# EAGLE library part ESP32 (library SeniorDesignParts)
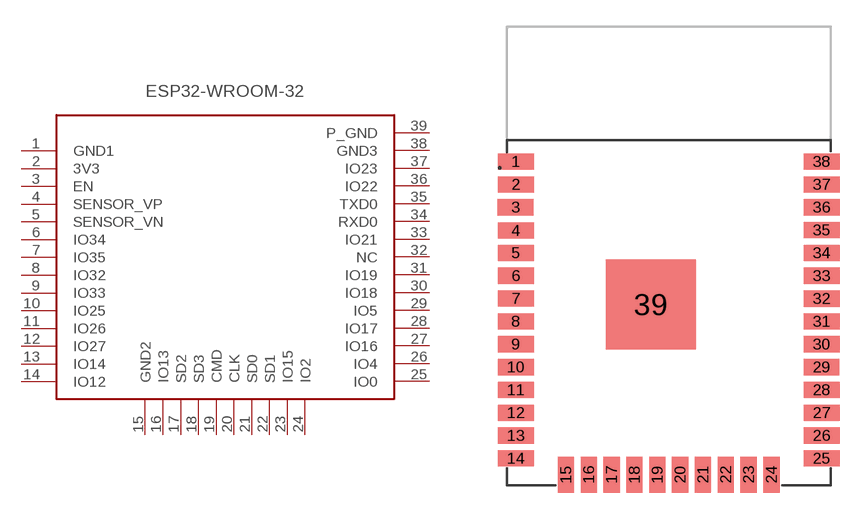
[diagram p2: symbol with the pads of 38-SMD; footprint 38-SMD]

Designator prefix -

## ESP32  [38-SMD]
1  GND1  pwr
2  3V3  pwr
3  EN
4  SENSOR_VP
5  SENSOR_VN
6  IO34
7  IO35
8  IO32
9  IO33
10  IO25
11  IO26
12  IO27
13  IO14
14  IO12
15  GND2  pwr
16  IO13
17  SD2
18  SD3
19  CMD
20  CLK
21  SD0
22  SD1
23  IO15
24  IO2
25  IO0
26  IO4
27  IO16
28  IO17
29  IO5
30  IO18
31  IO19
32  NC  nc
33  IO21
34  RXD0
35  TXD0
36  IO22
37  IO23
38  GND3  pwr
39  P_GND  pwr

## Footprint 38-SMD (pad centres in mm)
smd 2 x 0.9: 1 -7.62,5.08; 2 -7.62,3.81; 3 -7.63,2.54; 4 -7.62,1.24; 5 -7.62,0; 6 -7.62,-1.27; 7 -7.62,-2.54; 8 -7.62,-3.81; 9 -7.62,-5.08; 10 -7.62,-6.35; 11 -7.62,-7.62; 12 -7.62,-8.89; 13 -7.62,-10.16; 14 -7.62,-11.43; 25 9.379,-11.431; 26 9.379,-10.159; 27 9.381,-8.891; 28 9.379,-7.622; 29 9.377,-6.352; 30 9.379,-5.081; 31 9.382,-3.811; 32 9.38,-2.542; 33 9.38,-1.27; 34 9.38,0; 35 9.38,1.27; 36 9.38,2.54; 37 9.38,3.81; 38 9.38,5.08
smd 0.9 x 2: 15 -4.835,-12.33; 16 -3.565,-12.33; 17 -2.295,-12.33; 18 -1.025,-12.33; 19 0.245,-12.33; 20 1.515,-12.33; 21 2.785,-12.33; 22 4.055,-12.33; 23 5.325,-12.33; 24 6.595,-12.33
smd 5 x 5: 39 -0.118,-2.866